# Altium schematic symbol library ALLEGRO A4982 24PIN.SchLib: 1 symbol
Pins are listed as number, name and electrical type; pins without a type are passive.

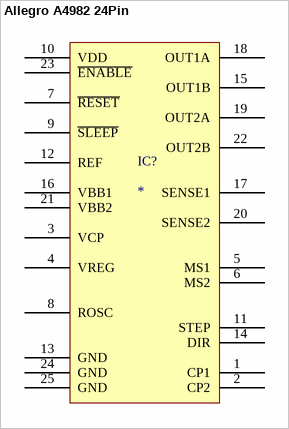
[diagram p0: symbol Allegro A4982 24Pin]

## Allegro A4982 24Pin
designator IC?
pins: 1 CP1, 2 CP2, 3 VCP, 4 VREG, 5 MS1, 6 MS2, 7 ~{RESET}, 8 ROSC, 9 ~{SLEEP}, 10 VDD, 11 STEP, 12 REF, 13 GND, 14 DIR, 15 OUT1B, 16 VBB1, 17 SENSE1, 18 OUT1A, 19 OUT2A, 20 SENSE2, 21 VBB2, 22 OUT2B, 23 ~{ENABLE}, 24 GND, 25 GND